# Altium schematic symbol library ATMEGA328PB-MN.SchLib: 1 symbol
Pins are listed as number, name and electrical type; pins without a type are passive.

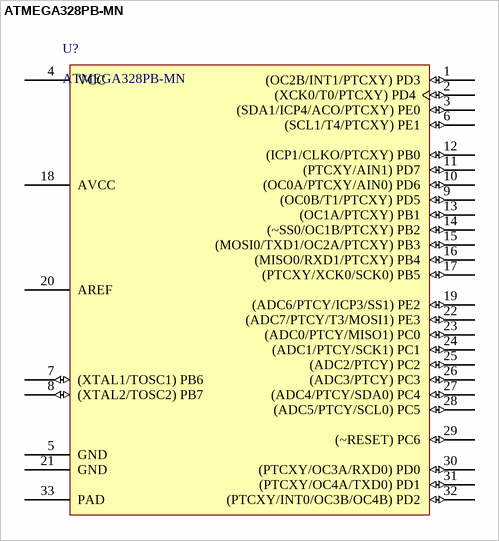
[diagram p0: symbol ATMEGA328PB-MN]

## ATMEGA328PB-MN
designator U?
AVR ATmega Microcontroller IC 8-Bit 20MHz 32KB (16K x 16) FLASH 32-VFQFN (5x5); Manufacturer: Microchip Technology / Atmel; Data RAM Size: 2 kB; Data RAM Type: SRAM; Data ROM Size: 1 kB; Data ROM Type: EEPROM; Interface Type: 2-Wire, I2C, SPI, USART; Number of I/Os: 23 I/O; ADC Resolution: 10 bit; DAC Resolution: No DAC; Data Bus Width: 8 bit; Development Kit: ATMEGA328PB-XMINI; Number of ADC Channels: 8 Channel; Number of Timers/Counters: 2 x 8 bit, 3 x 16 bit; Operating Supply Voltage: 1.8 V to 5.5 V; Processor Series: megaAVR; Supply Voltage - Max: 5.5 V; Watchdog Timers: Watchdog Timer; Product Status: New at Mouser; ClassName: *; Supplier 1: Mouser; Manufacturer Part Number: ATMEGA328PB-MN; RoHS: RoHS Compliant; Category: 8-bit Microcontrollers - MCU; Stock 1: 1448; Pricing 1: 1=1.32, 25=1.21, 100=1.10, 1000=1.05 (USD); Package / Case: QFN-32; Product: MCU; Program Memory Type: Flash; Brand: Microchip Technology / Atmel; Mounting Style: SMD/SMT; Program Memory Size: 32 kB; Core: AVR; Maximum Clock Frequency: 20 MHz; Maximum Operating Temperature: + 105 C; Minimum Operating Temperature: - 40 C; Standard Pack Qty: 490; RoHS - Mouser: Y; Minimum Order Quantity: 1; Reeling: False; ComponentLink1URL: http://www.mouser.com/ds/2/268/Atmel-42397-8-bit-AVR-Microcontroller-ATmega328PB_-1099108.pdf; ComponentLink1Description: http://www.mouser.com/ds/2/268/Atmel-42397-8-bit-AVR-Microcontroller-ATmega328PB_-1099108.pdf; Supplier Part Number 1: 556-ATMEGA328PB-MN
footprint QFN 32 (VFQFN ATMEL ATMEGA) (32-Pin Quad Flat No-Lead 0.5 mm Pitch, IPC Low Density)
pins: 1 (OC2B/INT1/PTCXY) PD3 (io), 2 (XCK0/T0/PTCXY) PD4 (io), 3 (SDA1/ICP4/ACO/PTCXY) PE0 (io), 4 VCC (power), 5 GND (power), 6 (SCL1/T4/PTCXY) PE1 (io), 7 (XTAL1/TOSC1) PB6 (io), 8 (XTAL2/TOSC2) PB7 (io), 9 (OC0B/T1/PTCXY) PD5 (io), 10 (OC0A/PTCXY/AIN0) PD6 (io), 11 (PTCXY/AIN1) PD7 (io), 12 (ICP1/CLKO/PTCXY) PB0 (io), 13 (OC1A/PTCXY) PB1 (io), 14 (~SS0/OC1B/PTCXY) PB2 (io), 15 (MOSI0/TXD1/OC2A/PTCXY) PB3 (io), 16 (MISO0/RXD1/PTCXY) PB4 (io), 17 (PTCXY/XCK0/SCK0) PB5 (io), 18 AVCC (power), 19 (ADC6/PTCY/ICP3/SS1) PE2 (io), 20 AREF (power), 21 GND (power), 22 (ADC7/PTCY/T3/MOSI1) PE3 (io), 23 (ADC0/PTCY/MISO1) PC0 (io), 24 (ADC1/PTCY/SCK1) PC1 (io), 25 (ADC2/PTCY) PC2 (io), 26 (ADC3/PTCY) PC3 (io), 27 (ADC4/PTCY/SDA0) PC4 (io), 28 (ADC5/PTCY/SCL0) PC5 (io), 29 (~RESET) PC6 (io), 30 (PTCXY/OC3A/RXD0) PD0 (io), 31 (PTCXY/OC4A/TXD0) PD1 (io), 32 (PTCXY/INT0/OC3B/OC4B) PD2 (io), 33 PAD